# EAGLE library part SGTL5000XNAA3 (library FarnellThings)
Low Power Stereo Codec with Headphone Amp,QFN-32
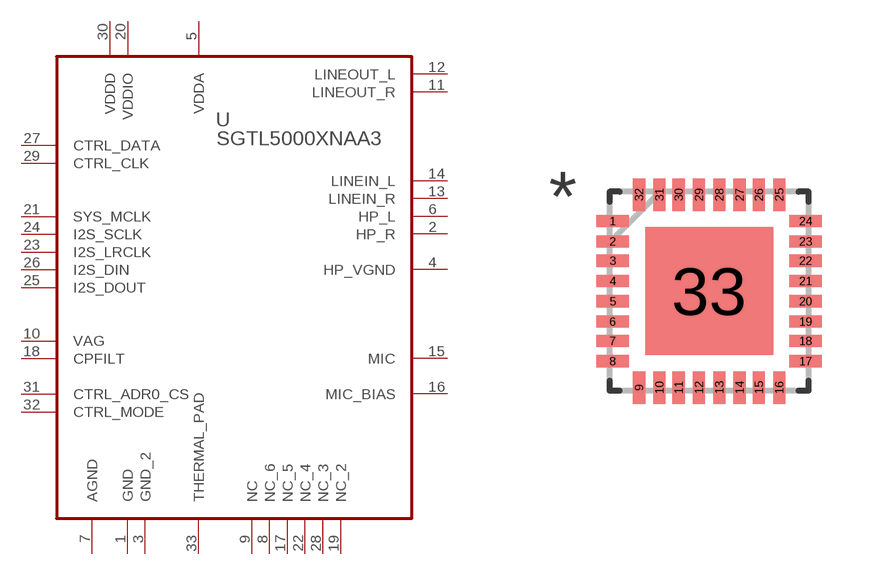
[diagram p12: symbol with the pads of QFN50P500X500X90-33N; footprint QFN50P500X500X90-33N]

Designator prefix U

## SGTL5000XNAA3 (MPN: SGTL5000XNAA3; OC_FARNELL: 2308049; OC_NEWARK: 14R9109; PACKAGE: QFN-32; SUPPLIER: FREESCALE SEMICONDUCTOR)  [QFN50P500X500X90-33N]
1  GND  pas
2  HP_R  in
3  GND_2  pas
4  HP_VGND  pas
5  VDDA  pwr
6  HP_L  in
7  AGND  pas
8  NC_6  nc
9  NC  nc
10  VAG  in
11  LINEOUT_R  out
12  LINEOUT_L  out
13  LINEIN_R  in
14  LINEIN_L  in
15  MIC  in
16  MIC_BIAS  in
17  NC_5  nc
18  CPFILT  in
19  NC_2  nc
20  VDDIO  pwr
21  SYS_MCLK  in
22  NC_4  nc
23  I2S_LRCLK  in
24  I2S_SCLK  in
25  I2S_DOUT  out
26  I2S_DIN  in
27  CTRL_DATA  in
28  NC_3  nc
29  CTRL_CLK  in
30  VDDD  pwr
31  CTRL_ADR0_CS  in
32  CTRL_MODE  in
33  THERMAL_PAD  pas

## Footprint QFN50P500X500X90-33N (pad centres in mm)
smd 0.813 x 0.305: 1 -2.413,1.753; 2 -2.413,1.245; 3 -2.413,0.762; 4 -2.413,0.254; 5 -2.413,-0.254; 6 -2.413,-0.762; 7 -2.413,-1.245; 8 -2.413,-1.753; 17 2.413,-1.753; 18 2.413,-1.245; 19 2.413,-0.762; 20 2.413,-0.254; 21 2.413,0.254; 22 2.413,0.762; 23 2.413,1.245; 24 2.413,1.753
smd 0.305 x 0.813: 9 -1.753,-2.413; 10 -1.245,-2.413; 11 -0.762,-2.413; 12 -0.254,-2.413; 13 0.254,-2.413; 14 0.762,-2.413; 15 1.245,-2.413; 16 1.753,-2.413; 25 1.753,2.413; 26 1.245,2.413; 27 0.762,2.413; 28 0.254,2.413; 29 -0.254,2.413; 30 -0.762,2.413; 31 -1.245,2.413; 32 -1.753,2.413
smd 3.2 x 3.2: 33 0,0